# Altium integrated library 8PIN-CONECTOR.IntLib: 1 symbol
Pins are listed as number, name and electrical type; pins without a type are passive.

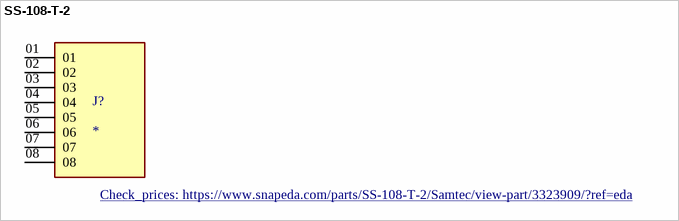
[diagram p0: symbol SS-108-T-2]

## SS-108-T-2
designator J?
SS Series .100 Single Row Screw Machine Socket Strip; MP: SS-108-T-2; MF: Samtec; SnapEDA_Link: https://www.snapeda.com/parts/SS-108-T-2/Samtec/view-part/3323909/?ref=snap; Availability: Bad; Package: None; Value: *; Price: None; Check_prices: https://www.snapeda.com/parts/SS-108-T-2/Samtec/view-part/3323909/?ref=eda
footprint SAMTEC_SS-108-T-2
pins: 01, 02, 03, 04, 05, 06, 07, 08